# Altium schematic symbol library PUSB3F96X.SchLib: 1 symbol
Pins are listed as number, name and electrical type; pins without a type are passive.

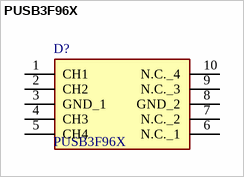
[diagram p0: symbol PUSB3F96X]

## PUSB3F96X
designator D?
4.6V (Typ) Clamp 5.2A (8/20s) Ipp Tvs Diode Surface Mount DFN2510A-10; Manufacturer_Name: Nexperia; Geometry.Height: 0.5mm; Mouser Part Number: 771-PUSB3F96X; Mouser Price/Stock: https://www.mouser.co.uk/ProductDetail/Nexperia/PUSB3F96X?qs=y2kkmE52mdOojYwbWuCCFg%3D%3D; Manufacturer_Part_Number: PUSB3F96X; Datasheet Link: https://www.nexperia.com/product/PUSB3F96
footprint PUSB3F96X
pins: 1 CH1, 2 CH2, 3 GND_1, 4 CH3, 5 CH4, 6 N.C._1, 7 N.C._2, 8 GND_2, 9 N.C._3, 10 N.C._4